# Altium integrated library Linear Technology Power Management System Supervisor, Monitor and Control.IntLib: 1611 symbols (part 11 of 100)
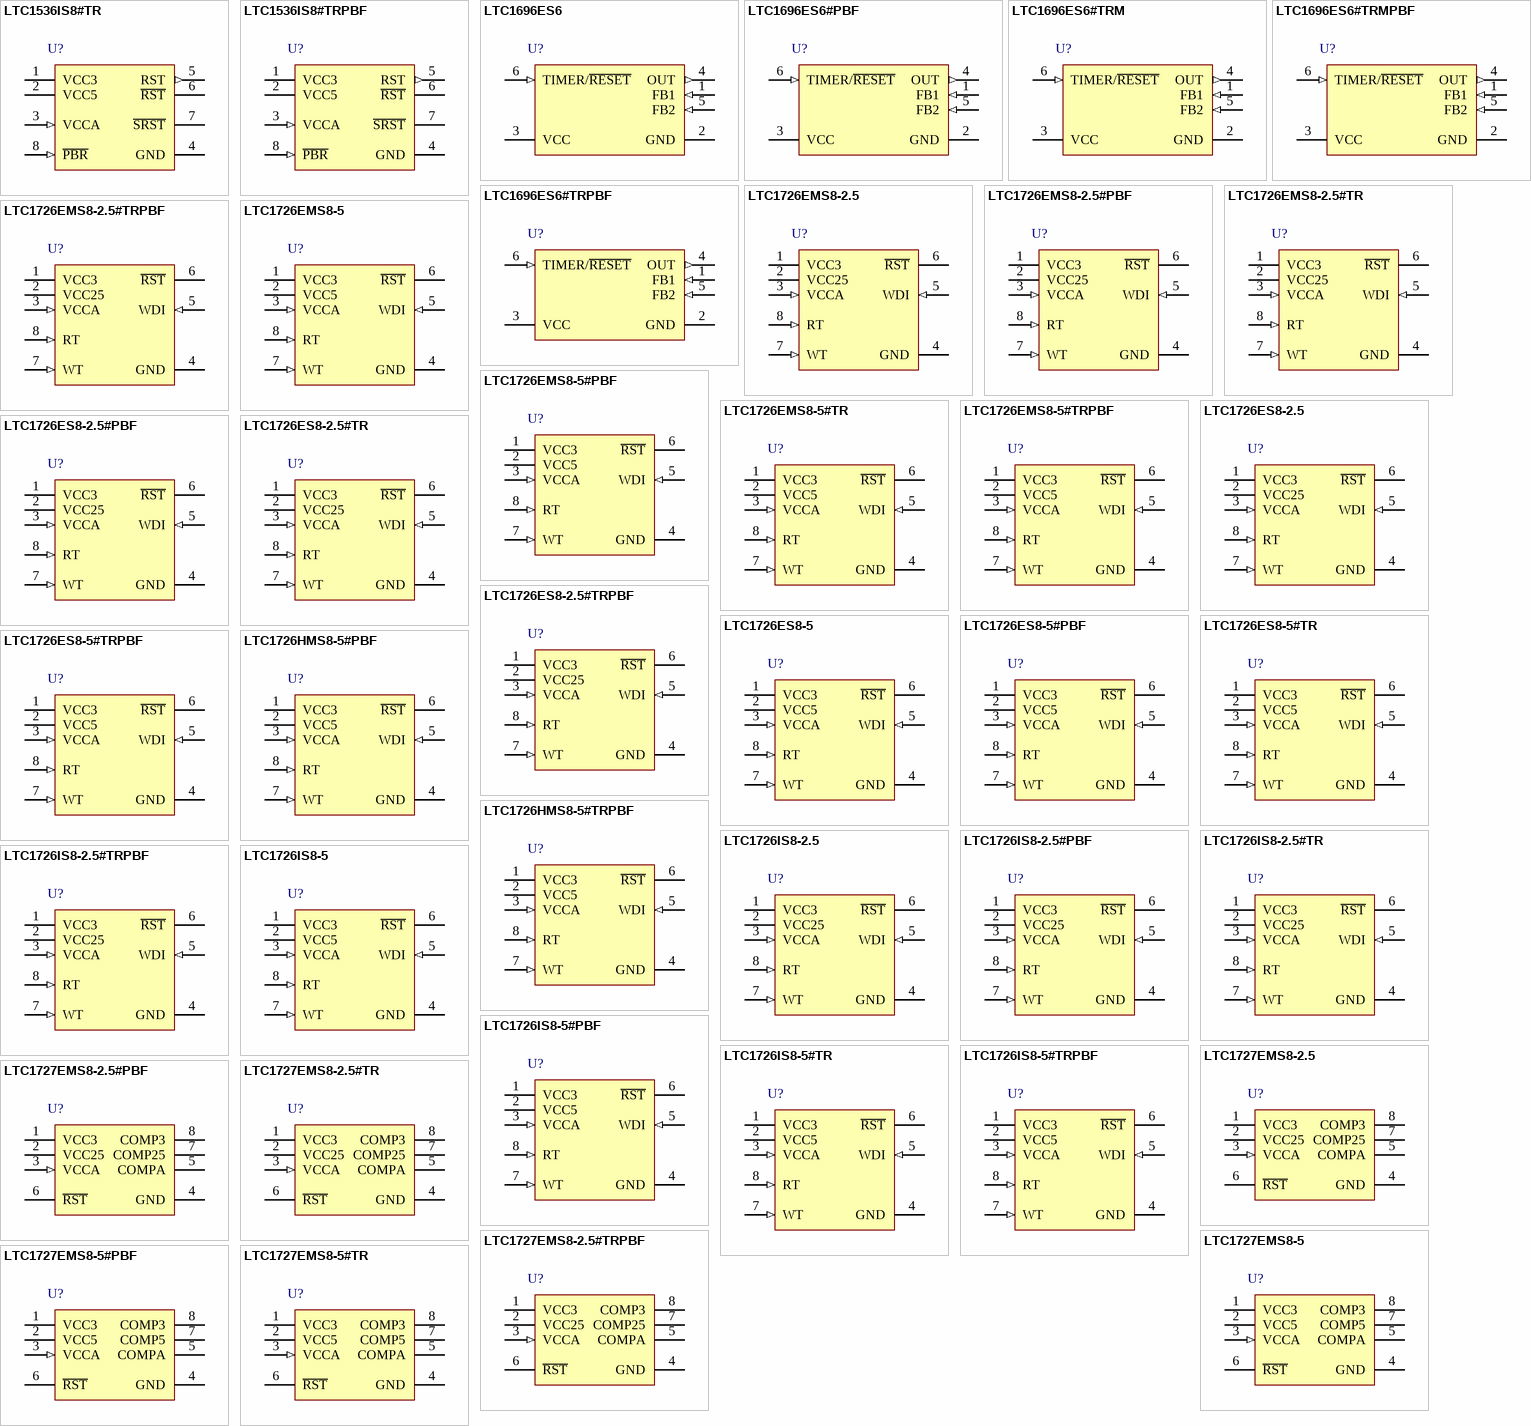
[diagram p55: symbols LTC1536IS8#TR to LTC1727EMS8-5#TR]

## LTC1696ES6#TRM
designator U?
Overvoltage Protection Controller, 6-pin SOT23 (S6-6), -40 to 85 degC, Mini Tape and Reel; Manufacturer: Linear Technology; PartNumber: LTC1696ES6#TRM; Number of Supplies(#): 1; PackageVersion: Jun-10; PackageReference: S6-6; PackageDescription: 6-Pin Plastic TSOT-23, Body 2.9 x 1.63 mm, Pitch 0.95 mm; Supplier 1: Digi-Key; Supplier Part Number 1: LTC1696ES6#TRMTR-ND; Supplier 2: Digi-Key; Supplier Part Number 2: LTC1696ES6#TRMCT-ND; Packing: Mini Tape and Reel; RoHS: FALSE; Mounting Technology: Surface Mount; Code_JEDEC: MO-193; ComponentLink1Description: Manufacturer URL; ComponentLink1URL: http://www.linear.com/; ComponentLink2Description: Datasheet; ComponentLink2URL: http://cds.linear.com/docs/en/datasheet/1696f.pdf; ComponentLink3Description: Package Specification; ComponentLink3URL: http://cds.linear.com/docs/en/packaging/SOT_6_05-08-1636.pdf
footprint LT-S6-6-TSOT-23_N (SOT23, 6-Leads, Body 2.9x1.75mm, Pitch 0.95mm, IPC Medium Density)
footprint LT-S6-6-TSOT-23_L (SOT23, 6-Leads, Body 2.9x1.75mm, Pitch 0.95mm, IPC High Density)
footprint LT-S6-6-TSOT-23_M (SOT23, 6-Leads, Body 2.9x1.75mm, Pitch 0.95mm, IPC Low Density)
pins: 1 FB1 (in) "First Feedback Input. FB1 monitors and senses the first supply output voltage through an external resistor divider. This voltage is then compared with an internal reference voltage of 0.88V, which sets the threshold for an (See Datasheet)", 2 GND (power) "Power Ground. Return path for all device currents.", 3 VCC (power) "Power Supply. The pin is connected separately from the power supply output that the chip is monitoring. Its input range is from 2.7V to 27V. The quiescent current is typically 100uA in standby mode when the device is (See Datasheet)", 4 OUT (out) "Output Current Limit Driver. Capable of delivering continuous current, typically 80mA, at high supplies. The output current decreases with lower supply voltage. This pin directly drives the SCR crowbar at high supply voltage.(See Datasheet)", 5 FB2 (in) "Second Feedback Input. FB2 monitors and senses the second supply output voltage through an external resistor divider. This voltage is then compared with an internal reference voltage of 0.88V, which sets the threshold for an (See Datasheet)", 6 TIMER/~{RESET} (in) "Glitch Filter Timer Capacitor, Reset and External Trigger Input. The external capacitor connected to this pin programs the internal glitch filter time delay. The internal current source used to charge the timer capacitor is (See Datasheet)"

## LTC1696ES6#TRMPBF
designator U?
Overvoltage Protection Controller, 6-pin SOT23 (S6-6), -40 to 85 degC, Pb-Free, Mini Tape and Reel; Manufacturer: Linear Technology; PartNumber: LTC1696ES6#TRMPBF; Number of Supplies(#): 1; PackageVersion: Jun-10; PackageReference: S6-6; PackageDescription: 6-Pin Plastic TSOT-23, Body 2.9 x 1.63 mm, Pitch 0.95 mm; Supplier 1: Digi-Key; Supplier Part Number 1: LTC1696ES6#TRMPBFTR-ND; Supplier 2: Digi-Key; Supplier Part Number 2: LTC1696ES6#TRMPBFCT-ND; Supplier 3: Digi-Key; Supplier Part Number 3: LTC1696ES6#TRMPBFDKR-ND; Supplier 4: Farnell; Supplier Part Number 4: 1663855; Supplier 5: Newark; Supplier Part Number 5: 59M8266; Packing: Mini Tape and Reel; RoHS: TRUE; Mounting Technology: Surface Mount; Code_JEDEC: MO-193; ComponentLink1Description: Manufacturer URL; ComponentLink1URL: http://www.linear.com/; ComponentLink2Description: Datasheet; ComponentLink2URL: http://cds.linear.com/docs/en/datasheet/1696f.pdf; ComponentLink3Description: Package Specification; ComponentLink3URL: http://cds.linear.com/docs/en/packaging/SOT_6_05-08-1636.pdf
footprint LT-S6-6-TSOT-23_N (SOT23, 6-Leads, Body 2.9x1.75mm, Pitch 0.95mm, IPC Medium Density)
footprint LT-S6-6-TSOT-23_L (SOT23, 6-Leads, Body 2.9x1.75mm, Pitch 0.95mm, IPC High Density)
footprint LT-S6-6-TSOT-23_M (SOT23, 6-Leads, Body 2.9x1.75mm, Pitch 0.95mm, IPC Low Density)
pins: 1 FB1 (in) "First Feedback Input. FB1 monitors and senses the first supply output voltage through an external resistor divider. This voltage is then compared with an internal reference voltage of 0.88V, which sets the threshold for an (See Datasheet)", 2 GND (power) "Power Ground. Return path for all device currents.", 3 VCC (power) "Power Supply. The pin is connected separately from the power supply output that the chip is monitoring. Its input range is from 2.7V to 27V. The quiescent current is typically 100uA in standby mode when the device is (See Datasheet)", 4 OUT (out) "Output Current Limit Driver. Capable of delivering continuous current, typically 80mA, at high supplies. The output current decreases with lower supply voltage. This pin directly drives the SCR crowbar at high supply voltage.(See Datasheet)", 5 FB2 (in) "Second Feedback Input. FB2 monitors and senses the second supply output voltage through an external resistor divider. This voltage is then compared with an internal reference voltage of 0.88V, which sets the threshold for an (See Datasheet)", 6 TIMER/~{RESET} (in) "Glitch Filter Timer Capacitor, Reset and External Trigger Input. The external capacitor connected to this pin programs the internal glitch filter time delay. The internal current source used to charge the timer capacitor is (See Datasheet)"

## LTC1696ES6#TRPBF
designator U?
Overvoltage Protection Controller, 6-pin SOT23 (S6-6), -40 to 85 degC, Pb-Free, Tape and Reel; Manufacturer: Linear Technology; PartNumber: LTC1696ES6#TRPBF; Number of Supplies(#): 1; PackageVersion: Jun-10; PackageReference: S6-6; PackageDescription: 6-Pin Plastic TSOT-23, Body 2.9 x 1.63 mm, Pitch 0.95 mm; Supplier 1: Digi-Key; Supplier Part Number 1: LTC1696ES6#TRPBF-ND; Packing: Tape and Reel; RoHS: TRUE; Mounting Technology: Surface Mount; Code_JEDEC: MO-193; ComponentLink1Description: Manufacturer URL; ComponentLink1URL: http://www.linear.com/; ComponentLink2Description: Datasheet; ComponentLink2URL: http://cds.linear.com/docs/en/datasheet/1696f.pdf; ComponentLink3Description: Package Specification; ComponentLink3URL: http://cds.linear.com/docs/en/packaging/SOT_6_05-08-1636.pdf
footprint LT-S6-6-TSOT-23_N (SOT23, 6-Leads, Body 2.9x1.75mm, Pitch 0.95mm, IPC Medium Density)
footprint LT-S6-6-TSOT-23_L (SOT23, 6-Leads, Body 2.9x1.75mm, Pitch 0.95mm, IPC High Density)
footprint LT-S6-6-TSOT-23_M (SOT23, 6-Leads, Body 2.9x1.75mm, Pitch 0.95mm, IPC Low Density)
pins: 1 FB1 (in) "First Feedback Input. FB1 monitors and senses the first supply output voltage through an external resistor divider. This voltage is then compared with an internal reference voltage of 0.88V, which sets the threshold for an (See Datasheet)", 2 GND (power) "Power Ground. Return path for all device currents.", 3 VCC (power) "Power Supply. The pin is connected separately from the power supply output that the chip is monitoring. Its input range is from 2.7V to 27V. The quiescent current is typically 100uA in standby mode when the device is (See Datasheet)", 4 OUT (out) "Output Current Limit Driver. Capable of delivering continuous current, typically 80mA, at high supplies. The output current decreases with lower supply voltage. This pin directly drives the SCR crowbar at high supply voltage.(See Datasheet)", 5 FB2 (in) "Second Feedback Input. FB2 monitors and senses the second supply output voltage through an external resistor divider. This voltage is then compared with an internal reference voltage of 0.88V, which sets the threshold for an (See Datasheet)", 6 TIMER/~{RESET} (in) "Glitch Filter Timer Capacitor, Reset and External Trigger Input. The external capacitor connected to this pin programs the internal glitch filter time delay. The internal current source used to charge the timer capacitor is (See Datasheet)"

## LTC1726EMS8-2.5
designator U?
Triple Supply Monitor and uP Supervisor with Adjustable Reset and Watchdog Timer, 8-pin SOP (MS8-8), -40 to 85 degC; Manufacturer: Linear Technology; PartNumber: LTC1726EMS8-2.5; Number of Supplies(#): 3; DatasheetVersion: Rev. D; PackageVersion: Rev. G, 03/2012; PackageReference: MS8-8; PackageDescription: 8-Pin Plastic MSOP, Body 3 x 3 mm, Pitch 0.65 mm; Supplier 1: Digi-Key; Supplier Part Number 1: LTC1726EMS8-2.5-ND; RoHS: FALSE; Mounting Technology: Surface Mount; ComponentLink1Description: Manufacturer URL; ComponentLink1URL: http://www.linear.com/; ComponentLink2Description: Datasheet; ComponentLink2URL: http://cds.linear.com/docs/en/datasheet/1726fd.pdf; ComponentLink3Description: Package Specification; ComponentLink3URL: http://cds.linear.com/docs/en/packaging/05081660_G_MS8.pdf
footprint LT-MS8-8_N (SOP, 8-Leads, Body 3.1x3.1mm, Pitch 0.65mm, IPC Medium Density)
footprint LT-MS8-8_L (SOP, 8-Leads, Body 3.1x3.1mm, Pitch 0.65mm, IPC High Density)
footprint LT-MS8-8_M (SOP, 8-Leads, Body 3.1x3.1mm, Pitch 0.65mm, IPC Low Density)
pins: 1 VCC3 (power) "3.3V Sense Input. This pin also supplies  power to the part when the voltage on this pin is greater  than the voltage on VCC25/VCC5. Bypass this pin to ground  with a 0.1uF or larger ceramic capacitor.", 2 VCC25 (power) "2.5V Sense Input (LTC1726-2.5). This pin  also supplies power to the part when the voltage on this  pin is greater than the voltage on VCC3. Bypass this pin to  ground with a 0.1uF or larger ceramic capacitor.", 3 VCCA (in) "1V Sense, High Impedance Input. If unused  it can be tied to either VCC3, VCC5 or VCC25", 4 GND (power) "Ground.", 5 WDI (in) "Watchdog Input. A logic input whose rising  or falling edge must occur on this pin within the selected  watchdog time-out period or a reset pulse will occur.  The watchdog time-out period is set by the value of the  (See Datasheet)", 6 ~{RST} (oc) "Reset Logic Output. Active low, open-drain  logic output with weak pull-up to VCC3. Asserted when one  or more of the supplies are below trip thresholds. After all  supplies become valid, the reset remains asserted for the  (See Datasheet)", 7 WT (in) "Watchdog Time-Out Input. Place a capacitor  between this pin and ground to adjust the watchdog timeout period. To determine the watchdog time-out period: t WT = 21.8 ? C WT with tWT in us and CWT in pF. As an example, a 47nF (See Datasheet)", 8 RT (in) "Reset Time-Out Input. Place a capacitor between this pin and ground to adjust the reset time-out period.  To determine the reset time-out period: t RT = 3.30 ? C RT with tRT in us and CRT in pF. As an example, a 47nF (See Datasheet)"

## LTC1726EMS8-2.5#PBF
designator U?
Triple Supply Monitor and uP Supervisor with Adjustable Reset and Watchdog Timer, 8-pin SOP (MS8-8), -40 to 85 degC, Pb-Free; Manufacturer: Linear Technology; PartNumber: LTC1726EMS8-2.5#PBF; Number of Supplies(#): 3; DatasheetVersion: Rev. D; PackageVersion: Rev. G, 03/2012; PackageReference: MS8-8; PackageDescription: 8-Pin Plastic MSOP, Body 3 x 3 mm, Pitch 0.65 mm; Supplier 1: Digi-Key; Supplier Part Number 1: LTC1726EMS8-2.5#PBF-ND; Supplier 2: Farnell; Supplier Part Number 2: 2295388; Supplier 3: Newark; Supplier Part Number 3: 56M3442; RoHS: TRUE; Mounting Technology: Surface Mount; ComponentLink1Description: Manufacturer URL; ComponentLink1URL: http://www.linear.com/; ComponentLink2Description: Datasheet; ComponentLink2URL: http://cds.linear.com/docs/en/datasheet/1726fd.pdf; ComponentLink3Description: Package Specification; ComponentLink3URL: http://cds.linear.com/docs/en/packaging/05081660_G_MS8.pdf
footprint LT-MS8-8_N (SOP, 8-Leads, Body 3.1x3.1mm, Pitch 0.65mm, IPC Medium Density)
footprint LT-MS8-8_L (SOP, 8-Leads, Body 3.1x3.1mm, Pitch 0.65mm, IPC High Density)
footprint LT-MS8-8_M (SOP, 8-Leads, Body 3.1x3.1mm, Pitch 0.65mm, IPC Low Density)
pins: 1 VCC3 (power) "3.3V Sense Input. This pin also supplies  power to the part when the voltage on this pin is greater  than the voltage on VCC25/VCC5. Bypass this pin to ground  with a 0.1uF or larger ceramic capacitor.", 2 VCC25 (power) "2.5V Sense Input (LTC1726-2.5). This pin  also supplies power to the part when the voltage on this  pin is greater than the voltage on VCC3. Bypass this pin to  ground with a 0.1uF or larger ceramic capacitor.", 3 VCCA (in) "1V Sense, High Impedance Input. If unused  it can be tied to either VCC3, VCC5 or VCC25", 4 GND (power) "Ground.", 5 WDI (in) "Watchdog Input. A logic input whose rising  or falling edge must occur on this pin within the selected  watchdog time-out period or a reset pulse will occur.  The watchdog time-out period is set by the value of the  (See Datasheet)", 6 ~{RST} (oc) "Reset Logic Output. Active low, open-drain  logic output with weak pull-up to VCC3. Asserted when one  or more of the supplies are below trip thresholds. After all  supplies become valid, the reset remains asserted for the  (See Datasheet)", 7 WT (in) "Watchdog Time-Out Input. Place a capacitor  between this pin and ground to adjust the watchdog timeout period. To determine the watchdog time-out period: t WT = 21.8 ? C WT with tWT in us and CWT in pF. As an example, a 47nF (See Datasheet)", 8 RT (in) "Reset Time-Out Input. Place a capacitor between this pin and ground to adjust the reset time-out period.  To determine the reset time-out period: t RT = 3.30 ? C RT with tRT in us and CRT in pF. As an example, a 47nF (See Datasheet)"

## LTC1726EMS8-2.5#TR
designator U?
Triple Supply Monitor and uP Supervisor with Adjustable Reset and Watchdog Timer, 8-pin SOP (MS8-8), -40 to 85 degC, Tape and Reel; Manufacturer: Linear Technology; PartNumber: LTC1726EMS8-2.5#TR; Number of Supplies(#): 3; DatasheetVersion: Rev. D; PackageVersion: Rev. G, 03/2012; PackageReference: MS8-8; PackageDescription: 8-Pin Plastic MSOP, Body 3 x 3 mm, Pitch 0.65 mm; Supplier 1: Digi-Key; Supplier Part Number 1: LTC1726EMS8-2.5TR-ND; Packing: Tape and Reel; RoHS: FALSE; Mounting Technology: Surface Mount; ComponentLink1Description: Manufacturer URL; ComponentLink1URL: http://www.linear.com/; ComponentLink2Description: Datasheet; ComponentLink2URL: http://cds.linear.com/docs/en/datasheet/1726fd.pdf; ComponentLink3Description: Package Specification; ComponentLink3URL: http://cds.linear.com/docs/en/packaging/05081660_G_MS8.pdf
footprint LT-MS8-8_N (SOP, 8-Leads, Body 3.1x3.1mm, Pitch 0.65mm, IPC Medium Density)
footprint LT-MS8-8_L (SOP, 8-Leads, Body 3.1x3.1mm, Pitch 0.65mm, IPC High Density)
footprint LT-MS8-8_M (SOP, 8-Leads, Body 3.1x3.1mm, Pitch 0.65mm, IPC Low Density)
pins: 1 VCC3 (power) "3.3V Sense Input. This pin also supplies  power to the part when the voltage on this pin is greater  than the voltage on VCC25/VCC5. Bypass this pin to ground  with a 0.1uF or larger ceramic capacitor.", 2 VCC25 (power) "2.5V Sense Input (LTC1726-2.5). This pin  also supplies power to the part when the voltage on this  pin is greater than the voltage on VCC3. Bypass this pin to  ground with a 0.1uF or larger ceramic capacitor.", 3 VCCA (in) "1V Sense, High Impedance Input. If unused  it can be tied to either VCC3, VCC5 or VCC25", 4 GND (power) "Ground.", 5 WDI (in) "Watchdog Input. A logic input whose rising  or falling edge must occur on this pin within the selected  watchdog time-out period or a reset pulse will occur.  The watchdog time-out period is set by the value of the  (See Datasheet)", 6 ~{RST} (oc) "Reset Logic Output. Active low, open-drain  logic output with weak pull-up to VCC3. Asserted when one  or more of the supplies are below trip thresholds. After all  supplies become valid, the reset remains asserted for the  (See Datasheet)", 7 WT (in) "Watchdog Time-Out Input. Place a capacitor  between this pin and ground to adjust the watchdog timeout period. To determine the watchdog time-out period: t WT = 21.8 ? C WT with tWT in us and CWT in pF. As an example, a 47nF (See Datasheet)", 8 RT (in) "Reset Time-Out Input. Place a capacitor between this pin and ground to adjust the reset time-out period.  To determine the reset time-out period: t RT = 3.30 ? C RT with tRT in us and CRT in pF. As an example, a 47nF (See Datasheet)"

## LTC1726EMS8-2.5#TRPBF
designator U?
Triple Supply Monitor and uP Supervisor with Adjustable Reset and Watchdog Timer, 8-pin SOP (MS8-8), -40 to 85 degC, Pb-Free, Tape and Reel; Manufacturer: Linear Technology; PartNumber: LTC1726EMS8-2.5#TRPBF; Number of Supplies(#): 3; DatasheetVersion: Rev. D; PackageVersion: Rev. G, 03/2012; PackageReference: MS8-8; PackageDescription: 8-Pin Plastic MSOP, Body 3 x 3 mm, Pitch 0.65 mm; Supplier 1: Digi-Key; Supplier Part Number 1: LTC1726EMS8-2.5#TRPBF-ND; Packing: Tape and Reel; RoHS: TRUE; Mounting Technology: Surface Mount; ComponentLink1Description: Manufacturer URL; ComponentLink1URL: http://www.linear.com/; ComponentLink2Description: Datasheet; ComponentLink2URL: http://cds.linear.com/docs/en/datasheet/1726fd.pdf; ComponentLink3Description: Package Specification; ComponentLink3URL: http://cds.linear.com/docs/en/packaging/05081660_G_MS8.pdf
footprint LT-MS8-8_N (SOP, 8-Leads, Body 3.1x3.1mm, Pitch 0.65mm, IPC Medium Density)
footprint LT-MS8-8_L (SOP, 8-Leads, Body 3.1x3.1mm, Pitch 0.65mm, IPC High Density)
footprint LT-MS8-8_M (SOP, 8-Leads, Body 3.1x3.1mm, Pitch 0.65mm, IPC Low Density)
pins: 1 VCC3 (power) "3.3V Sense Input. This pin also supplies  power to the part when the voltage on this pin is greater  than the voltage on VCC25/VCC5. Bypass this pin to ground  with a 0.1uF or larger ceramic capacitor.", 2 VCC25 (power) "2.5V Sense Input (LTC1726-2.5). This pin  also supplies power to the part when the voltage on this  pin is greater than the voltage on VCC3. Bypass this pin to  ground with a 0.1uF or larger ceramic capacitor.", 3 VCCA (in) "1V Sense, High Impedance Input. If unused  it can be tied to either VCC3, VCC5 or VCC25", 4 GND (power) "Ground.", 5 WDI (in) "Watchdog Input. A logic input whose rising  or falling edge must occur on this pin within the selected  watchdog time-out period or a reset pulse will occur.  The watchdog time-out period is set by the value of the  (See Datasheet)", 6 ~{RST} (oc) "Reset Logic Output. Active low, open-drain  logic output with weak pull-up to VCC3. Asserted when one  or more of the supplies are below trip thresholds. After all  supplies become valid, the reset remains asserted for the  (See Datasheet)", 7 WT (in) "Watchdog Time-Out Input. Place a capacitor  between this pin and ground to adjust the watchdog timeout period. To determine the watchdog time-out period: t WT = 21.8 ? C WT with tWT in us and CWT in pF. As an example, a 47nF (See Datasheet)", 8 RT (in) "Reset Time-Out Input. Place a capacitor between this pin and ground to adjust the reset time-out period.  To determine the reset time-out period: t RT = 3.30 ? C RT with tRT in us and CRT in pF. As an example, a 47nF (See Datasheet)"

## LTC1726EMS8-5
designator U?
Triple Supply Monitor and uP Supervisor with Adjustable Reset and Watchdog Timer, 8-pin SOP (MS8-8), -40 to 85 degC; Manufacturer: Linear Technology; PartNumber: LTC1726EMS8-5; Number of Supplies(#): 3; DatasheetVersion: Rev. D; PackageVersion: Rev. G, 03/2012; PackageReference: MS8-8; PackageDescription: 8-Pin Plastic MSOP, Body 3 x 3 mm, Pitch 0.65 mm; Supplier 1: Digi-Key; Supplier Part Number 1: LTC1726EMS8-5-ND; Supplier 2: Newark; Supplier Part Number 2: 56M3445; RoHS: FALSE; Mounting Technology: Surface Mount; ComponentLink1Description: Manufacturer URL; ComponentLink1URL: http://www.linear.com/; ComponentLink2Description: Datasheet; ComponentLink2URL: http://cds.linear.com/docs/en/datasheet/1726fd.pdf; ComponentLink3Description: Package Specification; ComponentLink3URL: http://cds.linear.com/docs/en/packaging/05081660_G_MS8.pdf
footprint LT-MS8-8_N (SOP, 8-Leads, Body 3.1x3.1mm, Pitch 0.65mm, IPC Medium Density)
footprint LT-MS8-8_L (SOP, 8-Leads, Body 3.1x3.1mm, Pitch 0.65mm, IPC High Density)
footprint LT-MS8-8_M (SOP, 8-Leads, Body 3.1x3.1mm, Pitch 0.65mm, IPC Low Density)
pins: 1 VCC3 (power) "3.3V Sense Input. This pin also supplies power to the part when the voltage on this pin is greater than the voltage on VCC5. Bypass this pin to ground with a 0.1uF or larger ceramic capacitor.", 2 VCC5 (power) "5V Sense Input (LTC1726-5). This pin also supplies power to the part when the voltage on this pin is greater than the voltage on VCC3. Bypass this pin to ground with a 0.1uF or larger ceramic capacitor.", 3 VCCA (in) "1V Sense, High Impedance Input. If unused it can be tied to either VCC3, VCC5 or VCC25.", 4 GND (power) "Ground.", 5 WDI (in) "Watchdog Input. A logic input whose rising or falling edge must occur on this pin within the selected watchdog time-out period or a reset pulse will occur. The watchdog time-out period is set by the value of the capacitor (See Datasheet)", 6 ~{RST} (oc) "Reset Logic Output. Active low, open-drain logic output with weak pull-up to VCC3. Asserted when one or more of the supplies are below trip thresholds. After all supplies become valid, the reset remains asserted for the (See Datasheet)", 7 WT (in) "Watchdog Time-Out Input. Place a capacitor between this pin and ground to adjust the watchdog timeout period. To determine the watchdog time-out period: tWT = 21.8 • CWT, with tWT in us and CWT in pF. As an example, a 47nF (See Datasheet)", 8 RT (in) "Reset Time-Out Input. Place a capacitor between this pin and ground to adjust the reset time-out period. To determine the reset time-out period: tRT = 3.30 • CRT, with tRT in us and CRT in pF. As an example, a 47nF capacitor (See Datasheet)"

## LTC1726EMS8-5#PBF
designator U?
Triple Supply Monitor and uP Supervisor with Adjustable Reset and Watchdog Timer, 8-pin SOP (MS8-8), -40 to 85 degC, Pb-Free; Manufacturer: Linear Technology; PartNumber: LTC1726EMS8-5#PBF; Number of Supplies(#): 3; DatasheetVersion: Rev. D; PackageVersion: Rev. G, 03/2012; PackageReference: MS8-8; PackageDescription: 8-Pin Plastic MSOP, Body 3 x 3 mm, Pitch 0.65 mm; Supplier 1: Digi-Key; Supplier Part Number 1: LTC1726EMS8-5#PBF-ND; Supplier 2: Farnell; Supplier Part Number 2: 2295389; Supplier 3: Newark; Supplier Part Number 3: 56M3446; RoHS: TRUE; Mounting Technology: Surface Mount; ComponentLink1Description: Manufacturer URL; ComponentLink1URL: http://www.linear.com/; ComponentLink2Description: Datasheet; ComponentLink2URL: http://cds.linear.com/docs/en/datasheet/1726fd.pdf; ComponentLink3Description: Package Specification; ComponentLink3URL: http://cds.linear.com/docs/en/packaging/05081660_G_MS8.pdf
footprint LT-MS8-8_N (SOP, 8-Leads, Body 3.1x3.1mm, Pitch 0.65mm, IPC Medium Density)
footprint LT-MS8-8_L (SOP, 8-Leads, Body 3.1x3.1mm, Pitch 0.65mm, IPC High Density)
footprint LT-MS8-8_M (SOP, 8-Leads, Body 3.1x3.1mm, Pitch 0.65mm, IPC Low Density)
pins: 1 VCC3 (power) "3.3V Sense Input. This pin also supplies power to the part when the voltage on this pin is greater than the voltage on VCC5. Bypass this pin to ground with a 0.1uF or larger ceramic capacitor.", 2 VCC5 (power) "5V Sense Input (LTC1726-5). This pin also supplies power to the part when the voltage on this pin is greater than the voltage on VCC3. Bypass this pin to ground with a 0.1uF or larger ceramic capacitor.", 3 VCCA (in) "1V Sense, High Impedance Input. If unused it can be tied to either VCC3, VCC5 or VCC25.", 4 GND (power) "Ground.", 5 WDI (in) "Watchdog Input. A logic input whose rising or falling edge must occur on this pin within the selected watchdog time-out period or a reset pulse will occur. The watchdog time-out period is set by the value of the capacitor (See Datasheet)", 6 ~{RST} (oc) "Reset Logic Output. Active low, open-drain logic output with weak pull-up to VCC3. Asserted when one or more of the supplies are below trip thresholds. After all supplies become valid, the reset remains asserted for the (See Datasheet)", 7 WT (in) "Watchdog Time-Out Input. Place a capacitor between this pin and ground to adjust the watchdog timeout period. To determine the watchdog time-out period: tWT = 21.8 • CWT, with tWT in us and CWT in pF. As an example, a 47nF (See Datasheet)", 8 RT (in) "Reset Time-Out Input. Place a capacitor between this pin and ground to adjust the reset time-out period. To determine the reset time-out period: tRT = 3.30 • CRT, with tRT in us and CRT in pF. As an example, a 47nF capacitor (See Datasheet)"

## LTC1726EMS8-5#TR
designator U?
Triple Supply Monitor and uP Supervisor with Adjustable Reset and Watchdog Timer, 8-pin SOP (MS8-8), -40 to 85 degC, Tape and Reel; Manufacturer: Linear Technology; PartNumber: LTC1726EMS8-5#TR; Number of Supplies(#): 3; DatasheetVersion: Rev. D; PackageVersion: Rev. G, 03/2012; PackageReference: MS8-8; PackageDescription: 8-Pin Plastic MSOP, Body 3 x 3 mm, Pitch 0.65 mm; Supplier 1: Digi-Key; Supplier Part Number 1: LTC1726EMS8-5#TR-ND; Supplier 2: Newark; Supplier Part Number 2: 56M3447; Packing: Tape and Reel; RoHS: FALSE; Mounting Technology: Surface Mount; ComponentLink1Description: Manufacturer URL; ComponentLink1URL: http://www.linear.com/; ComponentLink2Description: Datasheet; ComponentLink2URL: http://cds.linear.com/docs/en/datasheet/1726fd.pdf; ComponentLink3Description: Package Specification; ComponentLink3URL: http://cds.linear.com/docs/en/packaging/05081660_G_MS8.pdf
footprint LT-MS8-8_N (SOP, 8-Leads, Body 3.1x3.1mm, Pitch 0.65mm, IPC Medium Density)
footprint LT-MS8-8_L (SOP, 8-Leads, Body 3.1x3.1mm, Pitch 0.65mm, IPC High Density)
footprint LT-MS8-8_M (SOP, 8-Leads, Body 3.1x3.1mm, Pitch 0.65mm, IPC Low Density)
pins: 1 VCC3 (power) "3.3V Sense Input. This pin also supplies power to the part when the voltage on this pin is greater than the voltage on VCC5. Bypass this pin to ground with a 0.1uF or larger ceramic capacitor.", 2 VCC5 (power) "5V Sense Input (LTC1726-5). This pin also supplies power to the part when the voltage on this pin is greater than the voltage on VCC3. Bypass this pin to ground with a 0.1uF or larger ceramic capacitor.", 3 VCCA (in) "1V Sense, High Impedance Input. If unused it can be tied to either VCC3, VCC5 or VCC25.", 4 GND (power) "Ground.", 5 WDI (in) "Watchdog Input. A logic input whose rising or falling edge must occur on this pin within the selected watchdog time-out period or a reset pulse will occur. The watchdog time-out period is set by the value of the capacitor (See Datasheet)", 6 ~{RST} (oc) "Reset Logic Output. Active low, open-drain logic output with weak pull-up to VCC3. Asserted when one or more of the supplies are below trip thresholds. After all supplies become valid, the reset remains asserted for the (See Datasheet)", 7 WT (in) "Watchdog Time-Out Input. Place a capacitor between this pin and ground to adjust the watchdog timeout period. To determine the watchdog time-out period: tWT = 21.8 • CWT, with tWT in us and CWT in pF. As an example, a 47nF (See Datasheet)", 8 RT (in) "Reset Time-Out Input. Place a capacitor between this pin and ground to adjust the reset time-out period. To determine the reset time-out period: tRT = 3.30 • CRT, with tRT in us and CRT in pF. As an example, a 47nF capacitor (See Datasheet)"

## LTC1726EMS8-5#TRPBF
designator U?
Triple Supply Monitor and uP Supervisor with Adjustable Reset and Watchdog Timer, 8-pin SOP (MS8-8), -40 to 85 degC, Pb-Free, Tape and Reel; Manufacturer: Linear Technology; PartNumber: LTC1726EMS8-5#TRPBF; Number of Supplies(#): 3; DatasheetVersion: Rev. D; PackageVersion: Rev. G, 03/2012; PackageReference: MS8-8; PackageDescription: 8-Pin Plastic MSOP, Body 3 x 3 mm, Pitch 0.65 mm; Supplier 1: Digi-Key; Supplier Part Number 1: LTC1726EMS8-5#TRPBF-ND; Supplier 2: Newark; Supplier Part Number 2: 56M3448; Packing: Tape and Reel; RoHS: TRUE; Mounting Technology: Surface Mount; ComponentLink1Description: Manufacturer URL; ComponentLink1URL: http://www.linear.com/; ComponentLink2Description: Datasheet; ComponentLink2URL: http://cds.linear.com/docs/en/datasheet/1726fd.pdf; ComponentLink3Description: Package Specification; ComponentLink3URL: http://cds.linear.com/docs/en/packaging/05081660_G_MS8.pdf
footprint LT-MS8-8_N (SOP, 8-Leads, Body 3.1x3.1mm, Pitch 0.65mm, IPC Medium Density)
footprint LT-MS8-8_L (SOP, 8-Leads, Body 3.1x3.1mm, Pitch 0.65mm, IPC High Density)
footprint LT-MS8-8_M (SOP, 8-Leads, Body 3.1x3.1mm, Pitch 0.65mm, IPC Low Density)
pins: 1 VCC3 (power) "3.3V Sense Input. This pin also supplies power to the part when the voltage on this pin is greater than the voltage on VCC5. Bypass this pin to ground with a 0.1uF or larger ceramic capacitor.", 2 VCC5 (power) "5V Sense Input (LTC1726-5). This pin also supplies power to the part when the voltage on this pin is greater than the voltage on VCC3. Bypass this pin to ground with a 0.1uF or larger ceramic capacitor.", 3 VCCA (in) "1V Sense, High Impedance Input. If unused it can be tied to either VCC3, VCC5 or VCC25.", 4 GND (power) "Ground.", 5 WDI (in) "Watchdog Input. A logic input whose rising or falling edge must occur on this pin within the selected watchdog time-out period or a reset pulse will occur. The watchdog time-out period is set by the value of the capacitor (See Datasheet)", 6 ~{RST} (oc) "Reset Logic Output. Active low, open-drain logic output with weak pull-up to VCC3. Asserted when one or more of the supplies are below trip thresholds. After all supplies become valid, the reset remains asserted for the (See Datasheet)", 7 WT (in) "Watchdog Time-Out Input. Place a capacitor between this pin and ground to adjust the watchdog timeout period. To determine the watchdog time-out period: tWT = 21.8 • CWT, with tWT in us and CWT in pF. As an example, a 47nF (See Datasheet)", 8 RT (in) "Reset Time-Out Input. Place a capacitor between this pin and ground to adjust the reset time-out period. To determine the reset time-out period: tRT = 3.30 • CRT, with tRT in us and CRT in pF. As an example, a 47nF capacitor (See Datasheet)"

## LTC1726ES8-2.5
designator U?
Triple Supply Monitor and uP Supervisor with Adjustable Reset and Watchdog Timer, 8-pin SOIC (S8-8), -40 to 85 degC; Manufacturer: Linear Technology; PartNumber: LTC1726ES8-2.5; Number of Supplies(#): 3; DatasheetVersion: Rev. D; PackageVersion: Rev. G, 03/2012; PackageReference: S8-8; PackageDescription: 8-Pin Plastic Small Outline (Narrow .150 Inch), Body 4.9 x 3.9 mm, Pitch 1.27 mm; Supplier 1: Digi-Key; Supplier Part Number 1: LTC1726ES8-2.5-ND; RoHS: FALSE; Mounting Technology: Surface Mount; ComponentLink1Description: Manufacturer URL; ComponentLink1URL: http://www.linear.com/; ComponentLink2Description: Datasheet; ComponentLink2URL: http://cds.linear.com/docs/en/datasheet/1726fd.pdf; ComponentLink3Description: Package Specification; ComponentLink3URL: http://cds.linear.com/docs/en/packaging/05081610_G_SO8.pdf
footprint LT-S8-8_N (SOIC, 8-Leads, Body 5x4mm, Pitch 1.27mm, IPC Medium Density)
footprint LT-S8-8_L (SOIC, 8-Leads, Body 5x4mm, Pitch 1.27mm, IPC High Density)
footprint LT-S8-8_M (SOIC, 8-Leads, Body 5x4mm, Pitch 1.27mm, IPC Low Density)
pins: 1 VCC3 (power) "3.3V Sense Input. This pin also supplies  power to the part when the voltage on this pin is greater  than the voltage on VCC25/VCC5. Bypass this pin to ground  with a 0.1uF or larger ceramic capacitor.", 2 VCC25 (power) "2.5V Sense Input (LTC1726-2.5). This pin  also supplies power to the part when the voltage on this  pin is greater than the voltage on VCC3. Bypass this pin to  ground with a 0.1uF or larger ceramic capacitor.", 3 VCCA (in) "1V Sense, High Impedance Input. If unused  it can be tied to either VCC3, VCC5 or VCC25", 4 GND (power) "Ground.", 5 WDI (in) "Watchdog Input. A logic input whose rising  or falling edge must occur on this pin within the selected  watchdog time-out period or a reset pulse will occur.  The watchdog time-out period is set by the value of the  (See Datasheet)", 6 ~{RST} (oc) "Reset Logic Output. Active low, open-drain  logic output with weak pull-up to VCC3. Asserted when one  or more of the supplies are below trip thresholds. After all  supplies become valid, the reset remains asserted for the  (See Datasheet)", 7 WT (in) "Watchdog Time-Out Input. Place a capacitor  between this pin and ground to adjust the watchdog timeout period. To determine the watchdog time-out period: t WT = 21.8 ? C WT with tWT in us and CWT in pF. As an example, a 47nF (See Datasheet)", 8 RT (in) "Reset Time-Out Input. Place a capacitor between this pin and ground to adjust the reset time-out period.  To determine the reset time-out period: t RT = 3.30 ? C RT with tRT in us and CRT in pF. As an example, a 47nF (See Datasheet)"

## LTC1726ES8-2.5#PBF
designator U?
Triple Supply Monitor and uP Supervisor with Adjustable Reset and Watchdog Timer, 8-pin SOIC (S8-8), -40 to 85 degC, Pb-Free; Manufacturer: Linear Technology; PartNumber: LTC1726ES8-2.5#PBF; Number of Supplies(#): 3; DatasheetVersion: Rev. D; PackageVersion: Rev. G, 03/2012; PackageReference: S8-8; PackageDescription: 8-Pin Plastic Small Outline (Narrow .150 Inch), Body 4.9 x 3.9 mm, Pitch 1.27 mm; Supplier 1: Digi-Key; Supplier Part Number 1: LTC1726ES8-2.5#PBF-ND; Supplier 2: Farnell; Supplier Part Number 2: 2295390; Supplier 3: Newark; Supplier Part Number 3: 56M3450; RoHS: TRUE; Mounting Technology: Surface Mount; ComponentLink1Description: Manufacturer URL; ComponentLink1URL: http://www.linear.com/; ComponentLink2Description: Datasheet; ComponentLink2URL: http://cds.linear.com/docs/en/datasheet/1726fd.pdf; ComponentLink3Description: Package Specification; ComponentLink3URL: http://cds.linear.com/docs/en/packaging/05081610_G_SO8.pdf
footprint LT-S8-8_N (SOIC, 8-Leads, Body 5x4mm, Pitch 1.27mm, IPC Medium Density)
footprint LT-S8-8_L (SOIC, 8-Leads, Body 5x4mm, Pitch 1.27mm, IPC High Density)
footprint LT-S8-8_M (SOIC, 8-Leads, Body 5x4mm, Pitch 1.27mm, IPC Low Density)
pins: 1 VCC3 (power) "3.3V Sense Input. This pin also supplies  power to the part when the voltage on this pin is greater  than the voltage on VCC25/VCC5. Bypass this pin to ground  with a 0.1uF or larger ceramic capacitor.", 2 VCC25 (power) "2.5V Sense Input (LTC1726-2.5). This pin  also supplies power to the part when the voltage on this  pin is greater than the voltage on VCC3. Bypass this pin to  ground with a 0.1uF or larger ceramic capacitor.", 3 VCCA (in) "1V Sense, High Impedance Input. If unused  it can be tied to either VCC3, VCC5 or VCC25", 4 GND (power) "Ground.", 5 WDI (in) "Watchdog Input. A logic input whose rising  or falling edge must occur on this pin within the selected  watchdog time-out period or a reset pulse will occur.  The watchdog time-out period is set by the value of the  (See Datasheet)", 6 ~{RST} (oc) "Reset Logic Output. Active low, open-drain  logic output with weak pull-up to VCC3. Asserted when one  or more of the supplies are below trip thresholds. After all  supplies become valid, the reset remains asserted for the  (See Datasheet)", 7 WT (in) "Watchdog Time-Out Input. Place a capacitor  between this pin and ground to adjust the watchdog timeout period. To determine the watchdog time-out period: t WT = 21.8 ? C WT with tWT in us and CWT in pF. As an example, a 47nF (See Datasheet)", 8 RT (in) "Reset Time-Out Input. Place a capacitor between this pin and ground to adjust the reset time-out period.  To determine the reset time-out period: t RT = 3.30 ? C RT with tRT in us and CRT in pF. As an example, a 47nF (See Datasheet)"

## LTC1726ES8-2.5#TR
designator U?
Triple Supply Monitor and uP Supervisor with Adjustable Reset and Watchdog Timer, 8-pin SOIC (S8-8), -40 to 85 degC, Tape and Reel; Manufacturer: Linear Technology; PartNumber: LTC1726ES8-2.5#TR; Number of Supplies(#): 3; DatasheetVersion: Rev. D; PackageVersion: Rev. G, 03/2012; PackageReference: S8-8; PackageDescription: 8-Pin Plastic Small Outline (Narrow .150 Inch), Body 4.9 x 3.9 mm, Pitch 1.27 mm; Supplier 1: Digi-Key; Supplier Part Number 1: LTC1726ES8-2.5#TR-ND; Packing: Tape and Reel; RoHS: FALSE; Mounting Technology: Surface Mount; ComponentLink1Description: Manufacturer URL; ComponentLink1URL: http://www.linear.com/; ComponentLink2Description: Datasheet; ComponentLink2URL: http://cds.linear.com/docs/en/datasheet/1726fd.pdf; ComponentLink3Description: Package Specification; ComponentLink3URL: http://cds.linear.com/docs/en/packaging/05081610_G_SO8.pdf
footprint LT-S8-8_N (SOIC, 8-Leads, Body 5x4mm, Pitch 1.27mm, IPC Medium Density)
footprint LT-S8-8_L (SOIC, 8-Leads, Body 5x4mm, Pitch 1.27mm, IPC High Density)
footprint LT-S8-8_M (SOIC, 8-Leads, Body 5x4mm, Pitch 1.27mm, IPC Low Density)
pins: 1 VCC3 (power) "3.3V Sense Input. This pin also supplies  power to the part when the voltage on this pin is greater  than the voltage on VCC25/VCC5. Bypass this pin to ground  with a 0.1uF or larger ceramic capacitor.", 2 VCC25 (power) "2.5V Sense Input (LTC1726-2.5). This pin  also supplies power to the part when the voltage on this  pin is greater than the voltage on VCC3. Bypass this pin to  ground with a 0.1uF or larger ceramic capacitor.", 3 VCCA (in) "1V Sense, High Impedance Input. If unused  it can be tied to either VCC3, VCC5 or VCC25", 4 GND (power) "Ground.", 5 WDI (in) "Watchdog Input. A logic input whose rising  or falling edge must occur on this pin within the selected  watchdog time-out period or a reset pulse will occur.  The watchdog time-out period is set by the value of the  (See Datasheet)", 6 ~{RST} (oc) "Reset Logic Output. Active low, open-drain  logic output with weak pull-up to VCC3. Asserted when one  or more of the supplies are below trip thresholds. After all  supplies become valid, the reset remains asserted for the  (See Datasheet)", 7 WT (in) "Watchdog Time-Out Input. Place a capacitor  between this pin and ground to adjust the watchdog timeout period. To determine the watchdog time-out period: t WT = 21.8 ? C WT with tWT in us and CWT in pF. As an example, a 47nF (See Datasheet)", 8 RT (in) "Reset Time-Out Input. Place a capacitor between this pin and ground to adjust the reset time-out period.  To determine the reset time-out period: t RT = 3.30 ? C RT with tRT in us and CRT in pF. As an example, a 47nF (See Datasheet)"

## LTC1726ES8-2.5#TRPBF
designator U?
Triple Supply Monitor and uP Supervisor with Adjustable Reset and Watchdog Timer, 8-pin SOIC (S8-8), -40 to 85 degC, Pb-Free, Tape and Reel; Manufacturer: Linear Technology; PartNumber: LTC1726ES8-2.5#TRPBF; Number of Supplies(#): 3; DatasheetVersion: Rev. D; PackageVersion: Rev. G, 03/2012; PackageReference: S8-8; PackageDescription: 8-Pin Plastic Small Outline (Narrow .150 Inch), Body 4.9 x 3.9 mm, Pitch 1.27 mm; Supplier 1: Digi-Key; Supplier Part Number 1: LTC1726ES8-2.5#TRPBF-ND; Supplier 2: Newark; Supplier Part Number 2: 56M3452; Packing: Tape and Reel; RoHS: TRUE; Mounting Technology: Surface Mount; ComponentLink1Description: Manufacturer URL; ComponentLink1URL: http://www.linear.com/; ComponentLink2Description: Datasheet; ComponentLink2URL: http://cds.linear.com/docs/en/datasheet/1726fd.pdf; ComponentLink3Description: Package Specification; ComponentLink3URL: http://cds.linear.com/docs/en/packaging/05081610_G_SO8.pdf
footprint LT-S8-8_N (SOIC, 8-Leads, Body 5x4mm, Pitch 1.27mm, IPC Medium Density)
footprint LT-S8-8_L (SOIC, 8-Leads, Body 5x4mm, Pitch 1.27mm, IPC High Density)
footprint LT-S8-8_M (SOIC, 8-Leads, Body 5x4mm, Pitch 1.27mm, IPC Low Density)
pins: 1 VCC3 (power) "3.3V Sense Input. This pin also supplies  power to the part when the voltage on this pin is greater  than the voltage on VCC25/VCC5. Bypass this pin to ground  with a 0.1uF or larger ceramic capacitor.", 2 VCC25 (power) "2.5V Sense Input (LTC1726-2.5). This pin  also supplies power to the part when the voltage on this  pin is greater than the voltage on VCC3. Bypass this pin to  ground with a 0.1uF or larger ceramic capacitor.", 3 VCCA (in) "1V Sense, High Impedance Input. If unused  it can be tied to either VCC3, VCC5 or VCC25", 4 GND (power) "Ground.", 5 WDI (in) "Watchdog Input. A logic input whose rising  or falling edge must occur on this pin within the selected  watchdog time-out period or a reset pulse will occur.  The watchdog time-out period is set by the value of the  (See Datasheet)", 6 ~{RST} (oc) "Reset Logic Output. Active low, open-drain  logic output with weak pull-up to VCC3. Asserted when one  or more of the supplies are below trip thresholds. After all  supplies become valid, the reset remains asserted for the  (See Datasheet)", 7 WT (in) "Watchdog Time-Out Input. Place a capacitor  between this pin and ground to adjust the watchdog timeout period. To determine the watchdog time-out period: t WT = 21.8 ? C WT with tWT in us and CWT in pF. As an example, a 47nF (See Datasheet)", 8 RT (in) "Reset Time-Out Input. Place a capacitor between this pin and ground to adjust the reset time-out period.  To determine the reset time-out period: t RT = 3.30 ? C RT with tRT in us and CRT in pF. As an example, a 47nF (See Datasheet)"

## LTC1726ES8-5
designator U?
Triple Supply Monitor and uP Supervisor with Adjustable Reset and Watchdog Timer, 8-pin SOIC (S8-8), -40 to 85 degC; Manufacturer: Linear Technology; PartNumber: LTC1726ES8-5; Number of Supplies(#): 3; DatasheetVersion: Rev. D; PackageVersion: Rev. G, 03/2012; PackageReference: S8-8; PackageDescription: 8-Pin Plastic Small Outline (Narrow .150 Inch), Body 4.9 x 3.9 mm, Pitch 1.27 mm; Supplier 1: Digi-Key; Supplier Part Number 1: LTC1726ES8-5-ND; RoHS: FALSE; Mounting Technology: Surface Mount; ComponentLink1Description: Manufacturer URL; ComponentLink1URL: http://www.linear.com/; ComponentLink2Description: Datasheet; ComponentLink2URL: http://cds.linear.com/docs/en/datasheet/1726fd.pdf; ComponentLink3Description: Package Specification; ComponentLink3URL: http://cds.linear.com/docs/en/packaging/05081610_G_SO8.pdf
footprint LT-S8-8_N (SOIC, 8-Leads, Body 5x4mm, Pitch 1.27mm, IPC Medium Density)
footprint LT-S8-8_L (SOIC, 8-Leads, Body 5x4mm, Pitch 1.27mm, IPC High Density)
footprint LT-S8-8_M (SOIC, 8-Leads, Body 5x4mm, Pitch 1.27mm, IPC Low Density)
pins: 1 VCC3 (power) "3.3V Sense Input. This pin also supplies power to the part when the voltage on this pin is greater than the voltage on VCC5. Bypass this pin to ground with a 0.1uF or larger ceramic capacitor.", 2 VCC5 (power) "5V Sense Input (LTC1726-5). This pin also supplies power to the part when the voltage on this pin is greater than the voltage on VCC3. Bypass this pin to ground with a 0.1uF or larger ceramic capacitor.", 3 VCCA (in) "1V Sense, High Impedance Input. If unused it can be tied to either VCC3, VCC5 or VCC25.", 4 GND (power) "Ground.", 5 WDI (in) "Watchdog Input. A logic input whose rising or falling edge must occur on this pin within the selected watchdog time-out period or a reset pulse will occur. The watchdog time-out period is set by the value of the capacitor (See Datasheet)", 6 ~{RST} (oc) "Reset Logic Output. Active low, open-drain logic output with weak pull-up to VCC3. Asserted when one or more of the supplies are below trip thresholds. After all supplies become valid, the reset remains asserted for the (See Datasheet)", 7 WT (in) "Watchdog Time-Out Input. Place a capacitor between this pin and ground to adjust the watchdog timeout period. To determine the watchdog time-out period: tWT = 21.8 • CWT, with tWT in us and CWT in pF. As an example, a 47nF (See Datasheet)", 8 RT (in) "Reset Time-Out Input. Place a capacitor between this pin and ground to adjust the reset time-out period. To determine the reset time-out period: tRT = 3.30 • CRT, with tRT in us and CRT in pF. As an example, a 47nF capacitor (See Datasheet)"

## LTC1726ES8-5#PBF
designator U?
Triple Supply Monitor and uP Supervisor with Adjustable Reset and Watchdog Timer, 8-pin SOIC (S8-8), -40 to 85 degC, Pb-Free; Manufacturer: Linear Technology; PartNumber: LTC1726ES8-5#PBF; Number of Supplies(#): 3; DatasheetVersion: Rev. D; PackageVersion: Rev. G, 03/2012; PackageReference: S8-8; PackageDescription: 8-Pin Plastic Small Outline (Narrow .150 Inch), Body 4.9 x 3.9 mm, Pitch 1.27 mm; Supplier 1: Digi-Key; Supplier Part Number 1: LTC1726ES8-5#PBF-ND; Supplier 2: Farnell; Supplier Part Number 2: 1273651; Supplier 3: Newark; Supplier Part Number 3: 56M3454; RoHS: TRUE; Mounting Technology: Surface Mount; ComponentLink1Description: Manufacturer URL; ComponentLink1URL: http://www.linear.com/; ComponentLink2Description: Datasheet; ComponentLink2URL: http://cds.linear.com/docs/en/datasheet/1726fd.pdf; ComponentLink3Description: Package Specification; ComponentLink3URL: http://cds.linear.com/docs/en/packaging/05081610_G_SO8.pdf
footprint LT-S8-8_N (SOIC, 8-Leads, Body 5x4mm, Pitch 1.27mm, IPC Medium Density)
footprint LT-S8-8_L (SOIC, 8-Leads, Body 5x4mm, Pitch 1.27mm, IPC High Density)
footprint LT-S8-8_M (SOIC, 8-Leads, Body 5x4mm, Pitch 1.27mm, IPC Low Density)
pins: 1 VCC3 (power) "3.3V Sense Input. This pin also supplies power to the part when the voltage on this pin is greater than the voltage on VCC5. Bypass this pin to ground with a 0.1uF or larger ceramic capacitor.", 2 VCC5 (power) "5V Sense Input (LTC1726-5). This pin also supplies power to the part when the voltage on this pin is greater than the voltage on VCC3. Bypass this pin to ground with a 0.1uF or larger ceramic capacitor.", 3 VCCA (in) "1V Sense, High Impedance Input. If unused it can be tied to either VCC3, VCC5 or VCC25.", 4 GND (power) "Ground.", 5 WDI (in) "Watchdog Input. A logic input whose rising or falling edge must occur on this pin within the selected watchdog time-out period or a reset pulse will occur. The watchdog time-out period is set by the value of the capacitor (See Datasheet)", 6 ~{RST} (oc) "Reset Logic Output. Active low, open-drain logic output with weak pull-up to VCC3. Asserted when one or more of the supplies are below trip thresholds. After all supplies become valid, the reset remains asserted for the (See Datasheet)", 7 WT (in) "Watchdog Time-Out Input. Place a capacitor between this pin and ground to adjust the watchdog timeout period. To determine the watchdog time-out period: tWT = 21.8 • CWT, with tWT in us and CWT in pF. As an example, a 47nF (See Datasheet)", 8 RT (in) "Reset Time-Out Input. Place a capacitor between this pin and ground to adjust the reset time-out period. To determine the reset time-out period: tRT = 3.30 • CRT, with tRT in us and CRT in pF. As an example, a 47nF capacitor (See Datasheet)"

## LTC1726ES8-5#TR
designator U?
Triple Supply Monitor and uP Supervisor with Adjustable Reset and Watchdog Timer, 8-pin SOIC (S8-8), -40 to 85 degC, Tape and Reel; Manufacturer: Linear Technology; PartNumber: LTC1726ES8-5#TR; Number of Supplies(#): 3; DatasheetVersion: Rev. D; PackageVersion: Rev. G, 03/2012; PackageReference: S8-8; PackageDescription: 8-Pin Plastic Small Outline (Narrow .150 Inch), Body 4.9 x 3.9 mm, Pitch 1.27 mm; Supplier 1: Digi-Key; Supplier Part Number 1: LTC1726ES8-5#TR-ND; Packing: Tape and Reel; RoHS: FALSE; Mounting Technology: Surface Mount; ComponentLink1Description: Manufacturer URL; ComponentLink1URL: http://www.linear.com/; ComponentLink2Description: Datasheet; ComponentLink2URL: http://cds.linear.com/docs/en/datasheet/1726fd.pdf; ComponentLink3Description: Package Specification; ComponentLink3URL: http://cds.linear.com/docs/en/packaging/05081610_G_SO8.pdf
footprint LT-S8-8_N (SOIC, 8-Leads, Body 5x4mm, Pitch 1.27mm, IPC Medium Density)
footprint LT-S8-8_L (SOIC, 8-Leads, Body 5x4mm, Pitch 1.27mm, IPC High Density)
footprint LT-S8-8_M (SOIC, 8-Leads, Body 5x4mm, Pitch 1.27mm, IPC Low Density)
pins: 1 VCC3 (power) "3.3V Sense Input. This pin also supplies power to the part when the voltage on this pin is greater than the voltage on VCC5. Bypass this pin to ground with a 0.1uF or larger ceramic capacitor.", 2 VCC5 (power) "5V Sense Input (LTC1726-5). This pin also supplies power to the part when the voltage on this pin is greater than the voltage on VCC3. Bypass this pin to ground with a 0.1uF or larger ceramic capacitor.", 3 VCCA (in) "1V Sense, High Impedance Input. If unused it can be tied to either VCC3, VCC5 or VCC25.", 4 GND (power) "Ground.", 5 WDI (in) "Watchdog Input. A logic input whose rising or falling edge must occur on this pin within the selected watchdog time-out period or a reset pulse will occur. The watchdog time-out period is set by the value of the capacitor (See Datasheet)", 6 ~{RST} (oc) "Reset Logic Output. Active low, open-drain logic output with weak pull-up to VCC3. Asserted when one or more of the supplies are below trip thresholds. After all supplies become valid, the reset remains asserted for the (See Datasheet)", 7 WT (in) "Watchdog Time-Out Input. Place a capacitor between this pin and ground to adjust the watchdog timeout period. To determine the watchdog time-out period: tWT = 21.8 • CWT, with tWT in us and CWT in pF. As an example, a 47nF (See Datasheet)", 8 RT (in) "Reset Time-Out Input. Place a capacitor between this pin and ground to adjust the reset time-out period. To determine the reset time-out period: tRT = 3.30 • CRT, with tRT in us and CRT in pF. As an example, a 47nF capacitor (See Datasheet)"